# Altium footprint library Connector_FFC-FPC.PcbLib: 372 footprints (part 4 of 24)
Each footprint in its own frame and in the unit in brackets; x right, y up, seen from the top. Pads: shape width x height; smd on the part's side, far side on the other; paste and mask are expansions set on the pad; w line width, h text height; cw(c..) or ccw(c..) is an arc to the next point about the centre after c.
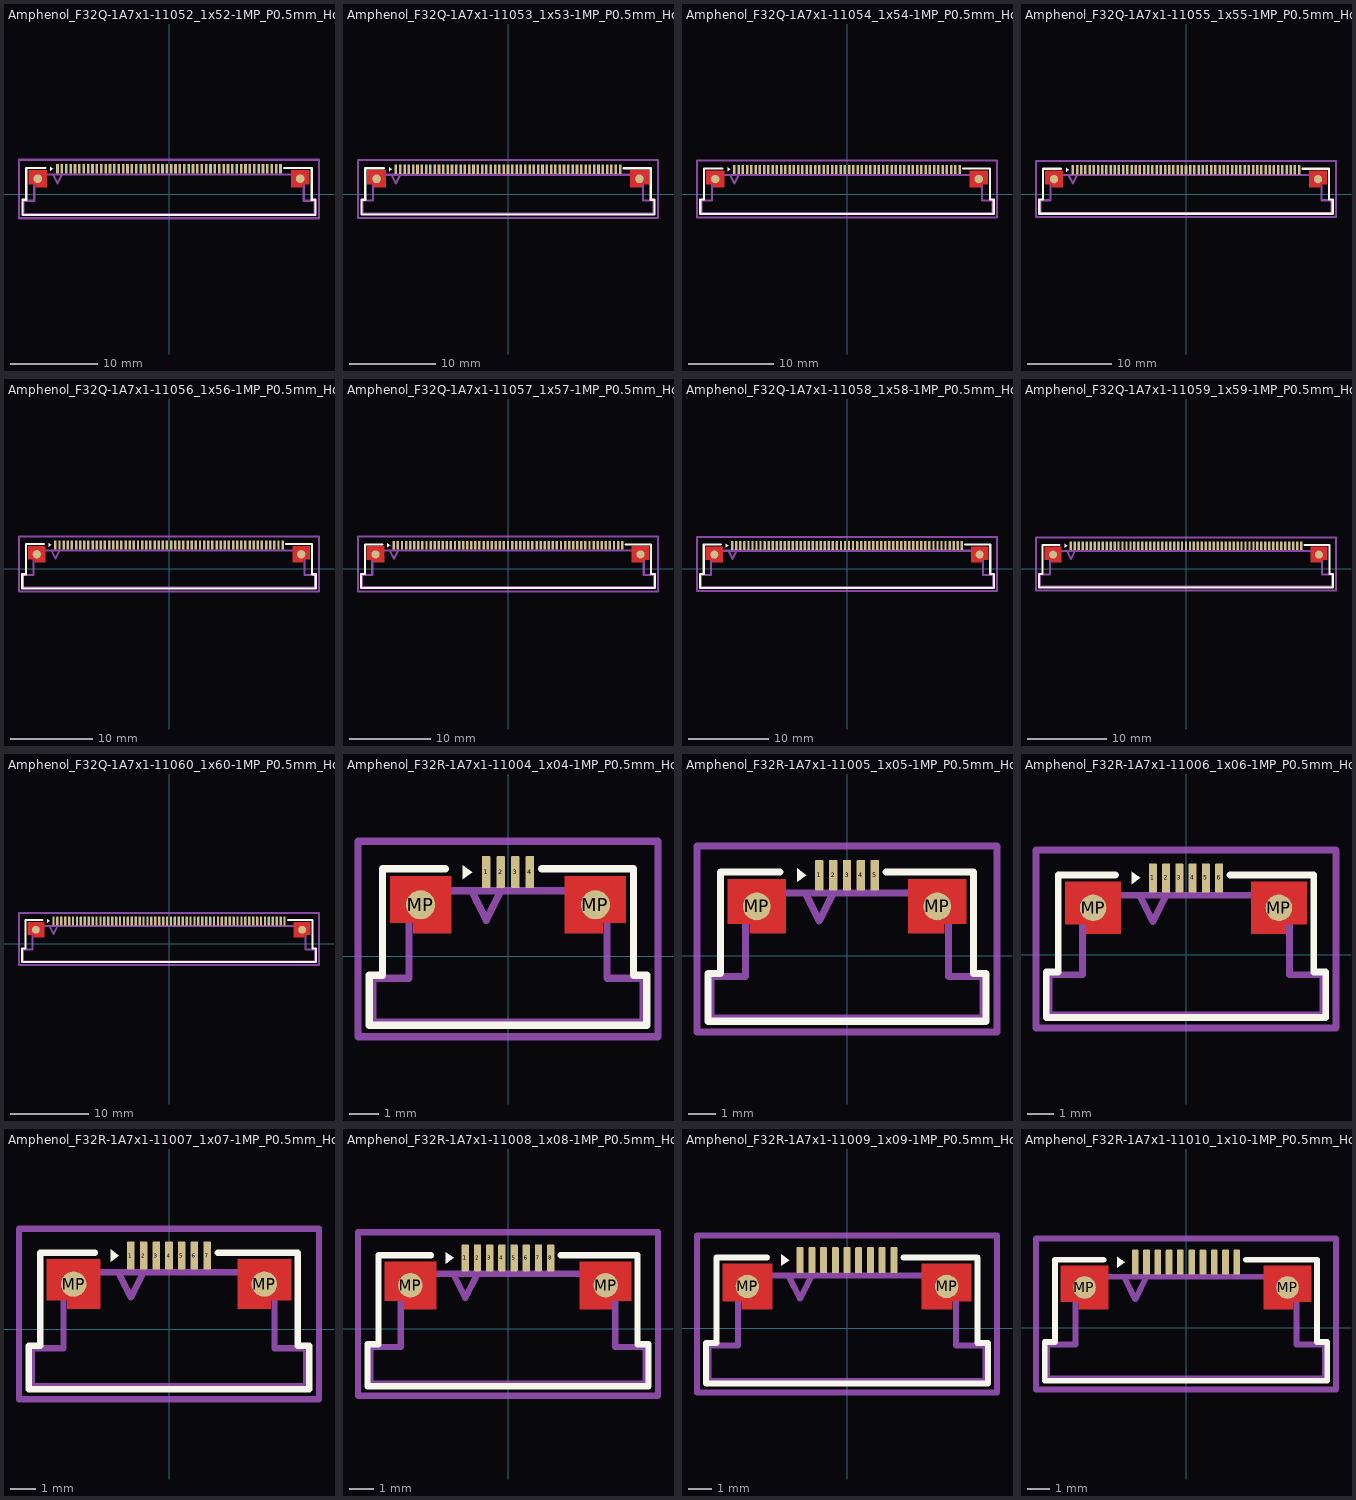
[diagram p3: the footprints below, top view; thin cyan lines are the x and y axes]

## Amphenol_F32Q-1A7x1-11052_1x52-1MP_P0.5mm_Horizontal [mm]
pads (54):
  rrect25% 0.3x1.1 smd: 1(-12.75,2.9) 2(-12.25,2.9) 3(-11.75,2.9) 4(-11.25,2.9) 5(-10.75,2.9) 6(-10.25,2.9) 7(-9.75,2.9) 8(-9.25,2.9) 9(-8.75,2.9) 10(-8.25,2.9) 11(-7.75,2.9) 12(-7.25,2.9) 13(-6.75,2.9) 14(-6.25,2.9) 15(-5.75,2.9) 16(-5.25,2.9) 17(-4.75,2.9) 18(-4.25,2.9) 19(-3.75,2.9) 20(-3.25,2.9) 21(-2.75,2.9) 22(-2.25,2.9) 23(-1.75,2.9) 24(-1.25,2.9) 25(-0.75,2.9) 26(-0.25,2.9) 27(0.25,2.9) 28(0.75,2.9) 29(1.25,2.9) 30(1.75,2.9) 31(2.25,2.9) 32(2.75,2.9) 33(3.25,2.9) 34(3.75,2.9) 35(4.25,2.9) 36(4.75,2.9) 37(5.25,2.9) 38(5.75,2.9) 39(6.25,2.9) 40(6.75,2.9) 41(7.25,2.9) 42(7.75,2.9) 43(8.25,2.9) 44(8.75,2.9) 45(9.25,2.9) 46(9.75,2.9) 47(10.25,2.9) 48(10.75,2.9) 49(11.25,2.9) 50(11.75,2.9) 51(12.25,2.9) 52(12.75,2.9)
  round 1 smd: MP(-15,1.775) MP(15,1.775)
F.Cu:
  region: 16.05,1.15 15.25,1.15 15.25,0.8 13.95,0.8 13.95,2.75 16.05,2.75
  region: -13.95,0.8 -15.25,0.8 -15.25,1.15 -16.05,1.15 -16.05,2.75 -13.95,2.75
F.SilkS:
  region: -13.22,2.9 -13.55,2.66 -13.55,3.14
  lines w0.254: -14.16,3.01 -16.31,3.01 -16.31,-0.64 -16.76,-0.64 -16.76,-2.36 16.76,-2.36 16.76,-0.64 16.31,-0.64 16.31,3.01 13.16,3.01
F.Paste:
  region: 16.05,1.15 15.25,1.15 15.25,0.8 13.95,0.8 13.95,2.75 16.05,2.75
  region: -13.95,0.8 -15.25,0.8 -15.25,1.15 -16.05,1.15 -16.05,2.75 -13.95,2.75
F.Mask:
  region: 16.05,1.15 15.25,1.15 15.25,0.8 13.95,0.8 13.95,2.75 16.05,2.75
  region: -13.95,0.8 -15.25,0.8 -15.25,1.15 -16.05,1.15 -16.05,2.75 -13.95,2.75
Top Assembly:
  lines w0.254: -13.25,2.25 -12.75,1.25 -12.25,2.25 ; -16.65,-2.25 16.65,-2.25 16.65,-0.75 15.4,-0.75 15.4,2.25 -15.4,2.25 -15.4,-0.75 -16.65,-0.75 -16.65,-2.25
  text "'.Designator'" at -4.047,-0.84 h1
Top Courtyard:
  lines w0.254: -17.15,-2.75 17.15,-2.75 17.15,3.95 -17.15,3.95 -17.15,-2.75
Top Designator:
  text ".Designator" at -7.618,0.092 h1.52

## Amphenol_F32Q-1A7x1-11053_1x53-1MP_P0.5mm_Horizontal [mm]
pads (55):
  rrect25% 0.3x1.1 smd: 1(-13,2.9) 2(-12.5,2.9) 3(-12,2.9) 4(-11.5,2.9) 5(-11,2.9) 6(-10.5,2.9) 7(-10,2.9) 8(-9.5,2.9) 9(-9,2.9) 10(-8.5,2.9) 11(-8,2.9) 12(-7.5,2.9) 13(-7,2.9) 14(-6.5,2.9) 15(-6,2.9) 16(-5.5,2.9) 17(-5,2.9) 18(-4.5,2.9) 19(-4,2.9) 20(-3.5,2.9) 21(-3,2.9) 22(-2.5,2.9) 23(-2,2.9) 24(-1.5,2.9) 25(-1,2.9) 26(-0.5,2.9) 27(0,2.9) 28(0.5,2.9) 29(1,2.9) 30(1.5,2.9) 31(2,2.9) 32(2.5,2.9) 33(3,2.9) 34(3.5,2.9) 35(4,2.9) 36(4.5,2.9) 37(5,2.9) 38(5.5,2.9) 39(6,2.9) 40(6.5,2.9) 41(7,2.9) 42(7.5,2.9) 43(8,2.9) 44(8.5,2.9) 45(9,2.9) 46(9.5,2.9) 47(10,2.9) 48(10.5,2.9) 49(11,2.9) 50(11.5,2.9) 51(12,2.9) 52(12.5,2.9) 53(13,2.9)
  round 1 smd: MP(-15.25,1.775) MP(15.25,1.775)
F.Cu:
  region: 16.3,1.15 15.5,1.15 15.5,0.8 14.2,0.8 14.2,2.75 16.3,2.75
  region: -14.2,0.8 -15.5,0.8 -15.5,1.15 -16.3,1.15 -16.3,2.75 -14.2,2.75
F.SilkS:
  region: -13.47,2.9 -13.8,2.66 -13.8,3.14
  lines w0.254: -14.41,3.01 -16.56,3.01 -16.56,-0.64 -17.01,-0.64 -17.01,-2.36 17.01,-2.36 17.01,-0.64 16.56,-0.64 16.56,3.01 13.41,3.01
F.Paste:
  region: 16.3,1.15 15.5,1.15 15.5,0.8 14.2,0.8 14.2,2.75 16.3,2.75
  region: -14.2,0.8 -15.5,0.8 -15.5,1.15 -16.3,1.15 -16.3,2.75 -14.2,2.75
F.Mask:
  region: 16.3,1.15 15.5,1.15 15.5,0.8 14.2,0.8 14.2,2.75 16.3,2.75
  region: -14.2,0.8 -15.5,0.8 -15.5,1.15 -16.3,1.15 -16.3,2.75 -14.2,2.75
Top Assembly:
  lines w0.254: -13.5,2.25 -13,1.25 -12.5,2.25 ; -16.9,-2.25 16.9,-2.25 16.9,-0.75 15.65,-0.75 15.65,2.25 -15.65,2.25 -15.65,-0.75 -16.9,-0.75 -16.9,-2.25
  text "'.Designator'" at -4.047,-0.84 h1
Top Courtyard:
  lines w0.254: -17.4,-2.75 17.4,-2.75 17.4,3.95 -17.4,3.95 -17.4,-2.75
Top Designator:
  text ".Designator" at -7.618,0.092 h1.52

## Amphenol_F32Q-1A7x1-11054_1x54-1MP_P0.5mm_Horizontal [mm]
pads (56):
  rrect25% 0.3x1.1 smd: 1(-13.25,2.9) 2(-12.75,2.9) 3(-12.25,2.9) 4(-11.75,2.9) 5(-11.25,2.9) 6(-10.75,2.9) 7(-10.25,2.9) 8(-9.75,2.9) 9(-9.25,2.9) 10(-8.75,2.9) 11(-8.25,2.9) 12(-7.75,2.9) 13(-7.25,2.9) 14(-6.75,2.9) 15(-6.25,2.9) 16(-5.75,2.9) 17(-5.25,2.9) 18(-4.75,2.9) 19(-4.25,2.9) 20(-3.75,2.9) 21(-3.25,2.9) 22(-2.75,2.9) 23(-2.25,2.9) 24(-1.75,2.9) 25(-1.25,2.9) 26(-0.75,2.9) 27(-0.25,2.9) 28(0.25,2.9) 29(0.75,2.9) 30(1.25,2.9) 31(1.75,2.9) 32(2.25,2.9) 33(2.75,2.9) 34(3.25,2.9) 35(3.75,2.9) 36(4.25,2.9) 37(4.75,2.9) 38(5.25,2.9) 39(5.75,2.9) 40(6.25,2.9) 41(6.75,2.9) 42(7.25,2.9) 43(7.75,2.9) 44(8.25,2.9) 45(8.75,2.9) 46(9.25,2.9) 47(9.75,2.9) 48(10.25,2.9) 49(10.75,2.9) 50(11.25,2.9) 51(11.75,2.9) 52(12.25,2.9) 53(12.75,2.9) 54(13.25,2.9)
  round 1 smd: MP(-15.5,1.775) MP(15.5,1.775)
F.Cu:
  region: 16.55,1.15 15.75,1.15 15.75,0.8 14.45,0.8 14.45,2.75 16.55,2.75
  region: -14.45,0.8 -15.75,0.8 -15.75,1.15 -16.55,1.15 -16.55,2.75 -14.45,2.75
F.SilkS:
  region: -13.72,2.9 -14.05,2.66 -14.05,3.14
  lines w0.254: -14.66,3.01 -16.81,3.01 -16.81,-0.64 -17.26,-0.64 -17.26,-2.36 17.26,-2.36 17.26,-0.64 16.81,-0.64 16.81,3.01 13.66,3.01
F.Paste:
  region: 16.55,1.15 15.75,1.15 15.75,0.8 14.45,0.8 14.45,2.75 16.55,2.75
  region: -14.45,0.8 -15.75,0.8 -15.75,1.15 -16.55,1.15 -16.55,2.75 -14.45,2.75
F.Mask:
  region: 16.55,1.15 15.75,1.15 15.75,0.8 14.45,0.8 14.45,2.75 16.55,2.75
  region: -14.45,0.8 -15.75,0.8 -15.75,1.15 -16.55,1.15 -16.55,2.75 -14.45,2.75
Top Assembly:
  lines w0.254: -13.75,2.25 -13.25,1.25 -12.75,2.25 ; -17.15,-2.25 17.15,-2.25 17.15,-0.75 15.9,-0.75 15.9,2.25 -15.9,2.25 -15.9,-0.75 -17.15,-0.75 -17.15,-2.25
  text "'.Designator'" at -4.047,-0.84 h1
Top Courtyard:
  lines w0.254: -17.65,-2.75 17.65,-2.75 17.65,3.95 -17.65,3.95 -17.65,-2.75
Top Designator:
  text ".Designator" at -7.618,0.092 h1.52

## Amphenol_F32Q-1A7x1-11055_1x55-1MP_P0.5mm_Horizontal [mm]
pads (57):
  rrect25% 0.3x1.1 smd: 1(-13.5,2.9) 2(-13,2.9) 3(-12.5,2.9) 4(-12,2.9) 5(-11.5,2.9) 6(-11,2.9) 7(-10.5,2.9) 8(-10,2.9) 9(-9.5,2.9) 10(-9,2.9) 11(-8.5,2.9) 12(-8,2.9) 13(-7.5,2.9) 14(-7,2.9) 15(-6.5,2.9) 16(-6,2.9) 17(-5.5,2.9) 18(-5,2.9) 19(-4.5,2.9) 20(-4,2.9) 21(-3.5,2.9) 22(-3,2.9) 23(-2.5,2.9) 24(-2,2.9) 25(-1.5,2.9) 26(-1,2.9) 27(-0.5,2.9) 28(0,2.9) 29(0.5,2.9) 30(1,2.9) 31(1.5,2.9) 32(2,2.9) 33(2.5,2.9) 34(3,2.9) 35(3.5,2.9) 36(4,2.9) 37(4.5,2.9) 38(5,2.9) 39(5.5,2.9) 40(6,2.9) 41(6.5,2.9) 42(7,2.9) 43(7.5,2.9) 44(8,2.9) 45(8.5,2.9) 46(9,2.9) 47(9.5,2.9) 48(10,2.9) 49(10.5,2.9) 50(11,2.9) 51(11.5,2.9) 52(12,2.9) 53(12.5,2.9) 54(13,2.9) 55(13.5,2.9)
  round 1 smd: MP(-15.75,1.775) MP(15.75,1.775)
F.Cu:
  region: 16.8,1.15 16,1.15 16,0.8 14.7,0.8 14.7,2.75 16.8,2.75
  region: -14.7,0.8 -16,0.8 -16,1.15 -16.8,1.15 -16.8,2.75 -14.7,2.75
F.SilkS:
  region: -13.97,2.9 -14.3,2.66 -14.3,3.14
  lines w0.254: -14.91,3.01 -17.06,3.01 -17.06,-0.64 -17.51,-0.64 -17.51,-2.36 17.51,-2.36 17.51,-0.64 17.06,-0.64 17.06,3.01 13.91,3.01
F.Paste:
  region: 16.8,1.15 16,1.15 16,0.8 14.7,0.8 14.7,2.75 16.8,2.75
  region: -14.7,0.8 -16,0.8 -16,1.15 -16.8,1.15 -16.8,2.75 -14.7,2.75
F.Mask:
  region: 16.8,1.15 16,1.15 16,0.8 14.7,0.8 14.7,2.75 16.8,2.75
  region: -14.7,0.8 -16,0.8 -16,1.15 -16.8,1.15 -16.8,2.75 -14.7,2.75
Top Assembly:
  lines w0.254: -14,2.25 -13.5,1.25 -13,2.25 ; -17.4,-2.25 17.4,-2.25 17.4,-0.75 16.15,-0.75 16.15,2.25 -16.15,2.25 -16.15,-0.75 -17.4,-0.75 -17.4,-2.25
  text "'.Designator'" at -4.047,-0.84 h1
Top Courtyard:
  lines w0.254: -17.9,-2.75 17.9,-2.75 17.9,3.95 -17.9,3.95 -17.9,-2.75
Top Designator:
  text ".Designator" at -7.618,0.092 h1.52

## Amphenol_F32Q-1A7x1-11056_1x56-1MP_P0.5mm_Horizontal [mm]
pads (58):
  rrect25% 0.3x1.1 smd: 1(-13.75,2.9) 2(-13.25,2.9) 3(-12.75,2.9) 4(-12.25,2.9) 5(-11.75,2.9) 6(-11.25,2.9) 7(-10.75,2.9) 8(-10.25,2.9) 9(-9.75,2.9) 10(-9.25,2.9) 11(-8.75,2.9) 12(-8.25,2.9) 13(-7.75,2.9) 14(-7.25,2.9) 15(-6.75,2.9) 16(-6.25,2.9) 17(-5.75,2.9) 18(-5.25,2.9) 19(-4.75,2.9) 20(-4.25,2.9) 21(-3.75,2.9) 22(-3.25,2.9) 23(-2.75,2.9) 24(-2.25,2.9) 25(-1.75,2.9) 26(-1.25,2.9) 27(-0.75,2.9) 28(-0.25,2.9) 29(0.25,2.9) 30(0.75,2.9) 31(1.25,2.9) 32(1.75,2.9) 33(2.25,2.9) 34(2.75,2.9) 35(3.25,2.9) 36(3.75,2.9) 37(4.25,2.9) 38(4.75,2.9) 39(5.25,2.9) 40(5.75,2.9) 41(6.25,2.9) 42(6.75,2.9) 43(7.25,2.9) 44(7.75,2.9) 45(8.25,2.9) 46(8.75,2.9) 47(9.25,2.9) 48(9.75,2.9) 49(10.25,2.9) 50(10.75,2.9) 51(11.25,2.9) 52(11.75,2.9) 53(12.25,2.9) 54(12.75,2.9) 55(13.25,2.9) 56(13.75,2.9)
  round 1 smd: MP(-16,1.775) MP(16,1.775)
F.Cu:
  region: 17.05,1.15 16.25,1.15 16.25,0.8 14.95,0.8 14.95,2.75 17.05,2.75
  region: -14.95,0.8 -16.25,0.8 -16.25,1.15 -17.05,1.15 -17.05,2.75 -14.95,2.75
F.SilkS:
  region: -14.22,2.9 -14.55,2.66 -14.55,3.14
  lines w0.254: -15.16,3.01 -17.31,3.01 -17.31,-0.64 -17.76,-0.64 -17.76,-2.36 17.76,-2.36 17.76,-0.64 17.31,-0.64 17.31,3.01 14.16,3.01
F.Paste:
  region: 17.05,1.15 16.25,1.15 16.25,0.8 14.95,0.8 14.95,2.75 17.05,2.75
  region: -14.95,0.8 -16.25,0.8 -16.25,1.15 -17.05,1.15 -17.05,2.75 -14.95,2.75
F.Mask:
  region: 17.05,1.15 16.25,1.15 16.25,0.8 14.95,0.8 14.95,2.75 17.05,2.75
  region: -14.95,0.8 -16.25,0.8 -16.25,1.15 -17.05,1.15 -17.05,2.75 -14.95,2.75
Top Assembly:
  lines w0.254: -14.25,2.25 -13.75,1.25 -13.25,2.25 ; -17.65,-2.25 17.65,-2.25 17.65,-0.75 16.4,-0.75 16.4,2.25 -16.4,2.25 -16.4,-0.75 -17.65,-0.75 -17.65,-2.25
  text "'.Designator'" at -4.047,-0.84 h1
Top Courtyard:
  lines w0.254: -18.15,-2.75 18.15,-2.75 18.15,3.95 -18.15,3.95 -18.15,-2.75
Top Designator:
  text ".Designator" at -7.618,0.092 h1.52

## Amphenol_F32Q-1A7x1-11057_1x57-1MP_P0.5mm_Horizontal [mm]
pads (59):
  rrect25% 0.3x1.1 smd: 1(-14,2.9) 2(-13.5,2.9) 3(-13,2.9) 4(-12.5,2.9) 5(-12,2.9) 6(-11.5,2.9) 7(-11,2.9) 8(-10.5,2.9) 9(-10,2.9) 10(-9.5,2.9) 11(-9,2.9) 12(-8.5,2.9) 13(-8,2.9) 14(-7.5,2.9) 15(-7,2.9) 16(-6.5,2.9) 17(-6,2.9) 18(-5.5,2.9) 19(-5,2.9) 20(-4.5,2.9) 21(-4,2.9) 22(-3.5,2.9) 23(-3,2.9) 24(-2.5,2.9) 25(-2,2.9) 26(-1.5,2.9) 27(-1,2.9) 28(-0.5,2.9) 29(0,2.9) 30(0.5,2.9) 31(1,2.9) 32(1.5,2.9) 33(2,2.9) 34(2.5,2.9) 35(3,2.9) 36(3.5,2.9) 37(4,2.9) 38(4.5,2.9) 39(5,2.9) 40(5.5,2.9) 41(6,2.9) 42(6.5,2.9) 43(7,2.9) 44(7.5,2.9) 45(8,2.9) 46(8.5,2.9) 47(9,2.9) 48(9.5,2.9) 49(10,2.9) 50(10.5,2.9) 51(11,2.9) 52(11.5,2.9) 53(12,2.9) 54(12.5,2.9) 55(13,2.9) 56(13.5,2.9) 57(14,2.9)
  round 1 smd: MP(-16.25,1.775) MP(16.25,1.775)
F.Cu:
  region: 17.3,1.15 16.5,1.15 16.5,0.8 15.2,0.8 15.2,2.75 17.3,2.75
  region: -15.2,0.8 -16.5,0.8 -16.5,1.15 -17.3,1.15 -17.3,2.75 -15.2,2.75
F.SilkS:
  region: -14.47,2.9 -14.8,2.66 -14.8,3.14
  lines w0.254: -15.41,3.01 -17.56,3.01 -17.56,-0.64 -18.01,-0.64 -18.01,-2.36 18.01,-2.36 18.01,-0.64 17.56,-0.64 17.56,3.01 14.41,3.01
F.Paste:
  region: 17.3,1.15 16.5,1.15 16.5,0.8 15.2,0.8 15.2,2.75 17.3,2.75
  region: -15.2,0.8 -16.5,0.8 -16.5,1.15 -17.3,1.15 -17.3,2.75 -15.2,2.75
F.Mask:
  region: 17.3,1.15 16.5,1.15 16.5,0.8 15.2,0.8 15.2,2.75 17.3,2.75
  region: -15.2,0.8 -16.5,0.8 -16.5,1.15 -17.3,1.15 -17.3,2.75 -15.2,2.75
Top Assembly:
  lines w0.254: -14.5,2.25 -14,1.25 -13.5,2.25 ; -17.9,-2.25 17.9,-2.25 17.9,-0.75 16.65,-0.75 16.65,2.25 -16.65,2.25 -16.65,-0.75 -17.9,-0.75 -17.9,-2.25
  text "'.Designator'" at -4.047,-0.84 h1
Top Courtyard:
  lines w0.254: -18.4,-2.75 18.4,-2.75 18.4,3.95 -18.4,3.95 -18.4,-2.75
Top Designator:
  text ".Designator" at -7.618,0.092 h1.52

## Amphenol_F32Q-1A7x1-11058_1x58-1MP_P0.5mm_Horizontal [mm]
pads (60):
  rrect25% 0.3x1.1 smd: 1(-14.25,2.9) 2(-13.75,2.9) 3(-13.25,2.9) 4(-12.75,2.9) 5(-12.25,2.9) 6(-11.75,2.9) 7(-11.25,2.9) 8(-10.75,2.9) 9(-10.25,2.9) 10(-9.75,2.9) 11(-9.25,2.9) 12(-8.75,2.9) 13(-8.25,2.9) 14(-7.75,2.9) 15(-7.25,2.9) 16(-6.75,2.9) 17(-6.25,2.9) 18(-5.75,2.9) 19(-5.25,2.9) 20(-4.75,2.9) 21(-4.25,2.9) 22(-3.75,2.9) 23(-3.25,2.9) 24(-2.75,2.9) 25(-2.25,2.9) 26(-1.75,2.9) 27(-1.25,2.9) 28(-0.75,2.9) 29(-0.25,2.9) 30(0.25,2.9) 31(0.75,2.9) 32(1.25,2.9) 33(1.75,2.9) 34(2.25,2.9) 35(2.75,2.9) 36(3.25,2.9) 37(3.75,2.9) 38(4.25,2.9) 39(4.75,2.9) 40(5.25,2.9) 41(5.75,2.9) 42(6.25,2.9) 43(6.75,2.9) 44(7.25,2.9) 45(7.75,2.9) 46(8.25,2.9) 47(8.75,2.9) 48(9.25,2.9) 49(9.75,2.9) 50(10.25,2.9) 51(10.75,2.9) 52(11.25,2.9) 53(11.75,2.9) 54(12.25,2.9) 55(12.75,2.9) 56(13.25,2.9) 57(13.75,2.9) 58(14.25,2.9)
  round 1 smd: MP(-16.5,1.775) MP(16.5,1.775)
F.Cu:
  region: 17.55,1.15 16.75,1.15 16.75,0.8 15.45,0.8 15.45,2.75 17.55,2.75
  region: -15.45,0.8 -16.75,0.8 -16.75,1.15 -17.55,1.15 -17.55,2.75 -15.45,2.75
F.SilkS:
  region: -14.72,2.9 -15.05,2.66 -15.05,3.14
  lines w0.254: -15.66,3.01 -17.81,3.01 -17.81,-0.64 -18.26,-0.64 -18.26,-2.36 18.26,-2.36 18.26,-0.64 17.81,-0.64 17.81,3.01 14.66,3.01
F.Paste:
  region: 17.55,1.15 16.75,1.15 16.75,0.8 15.45,0.8 15.45,2.75 17.55,2.75
  region: -15.45,0.8 -16.75,0.8 -16.75,1.15 -17.55,1.15 -17.55,2.75 -15.45,2.75
F.Mask:
  region: 17.55,1.15 16.75,1.15 16.75,0.8 15.45,0.8 15.45,2.75 17.55,2.75
  region: -15.45,0.8 -16.75,0.8 -16.75,1.15 -17.55,1.15 -17.55,2.75 -15.45,2.75
Top Assembly:
  lines w0.254: -14.75,2.25 -14.25,1.25 -13.75,2.25 ; -18.15,-2.25 18.15,-2.25 18.15,-0.75 16.9,-0.75 16.9,2.25 -16.9,2.25 -16.9,-0.75 -18.15,-0.75 -18.15,-2.25
  text "'.Designator'" at -4.047,-0.84 h1
Top Courtyard:
  lines w0.254: -18.65,-2.75 18.65,-2.75 18.65,3.95 -18.65,3.95 -18.65,-2.75
Top Designator:
  text ".Designator" at -7.618,0.092 h1.52

## Amphenol_F32Q-1A7x1-11059_1x59-1MP_P0.5mm_Horizontal [mm]
pads (61):
  rrect25% 0.3x1.1 smd: 1(-14.5,2.9) 2(-14,2.9) 3(-13.5,2.9) 4(-13,2.9) 5(-12.5,2.9) 6(-12,2.9) 7(-11.5,2.9) 8(-11,2.9) 9(-10.5,2.9) 10(-10,2.9) 11(-9.5,2.9) 12(-9,2.9) 13(-8.5,2.9) 14(-8,2.9) 15(-7.5,2.9) 16(-7,2.9) 17(-6.5,2.9) 18(-6,2.9) 19(-5.5,2.9) 20(-5,2.9) 21(-4.5,2.9) 22(-4,2.9) 23(-3.5,2.9) 24(-3,2.9) 25(-2.5,2.9) 26(-2,2.9) 27(-1.5,2.9) 28(-1,2.9) 29(-0.5,2.9) 30(0,2.9) 31(0.5,2.9) 32(1,2.9) 33(1.5,2.9) 34(2,2.9) 35(2.5,2.9) 36(3,2.9) 37(3.5,2.9) 38(4,2.9) 39(4.5,2.9) 40(5,2.9) 41(5.5,2.9) 42(6,2.9) 43(6.5,2.9) 44(7,2.9) 45(7.5,2.9) 46(8,2.9) 47(8.5,2.9) 48(9,2.9) 49(9.5,2.9) 50(10,2.9) 51(10.5,2.9) 52(11,2.9) 53(11.5,2.9) 54(12,2.9) 55(12.5,2.9) 56(13,2.9) 57(13.5,2.9) 58(14,2.9) 59(14.5,2.9)
  round 1 smd: MP(-16.75,1.775) MP(16.75,1.775)
F.Cu:
  region: 17.8,1.15 17,1.15 17,0.8 15.7,0.8 15.7,2.75 17.8,2.75
  region: -15.7,0.8 -17,0.8 -17,1.15 -17.8,1.15 -17.8,2.75 -15.7,2.75
F.SilkS:
  region: -14.97,2.9 -15.3,2.66 -15.3,3.14
  lines w0.254: -15.91,3.01 -18.06,3.01 -18.06,-0.64 -18.51,-0.64 -18.51,-2.36 18.51,-2.36 18.51,-0.64 18.06,-0.64 18.06,3.01 14.91,3.01
F.Paste:
  region: 17.8,1.15 17,1.15 17,0.8 15.7,0.8 15.7,2.75 17.8,2.75
  region: -15.7,0.8 -17,0.8 -17,1.15 -17.8,1.15 -17.8,2.75 -15.7,2.75
F.Mask:
  region: 17.8,1.15 17,1.15 17,0.8 15.7,0.8 15.7,2.75 17.8,2.75
  region: -15.7,0.8 -17,0.8 -17,1.15 -17.8,1.15 -17.8,2.75 -15.7,2.75
Top Assembly:
  lines w0.254: -15,2.25 -14.5,1.25 -14,2.25 ; -18.4,-2.25 18.4,-2.25 18.4,-0.75 17.15,-0.75 17.15,2.25 -17.15,2.25 -17.15,-0.75 -18.4,-0.75 -18.4,-2.25
  text "'.Designator'" at -4.047,-0.84 h1
Top Courtyard:
  lines w0.254: -18.9,-2.75 18.9,-2.75 18.9,3.95 -18.9,3.95 -18.9,-2.75
Top Designator:
  text ".Designator" at -7.618,0.092 h1.52

## Amphenol_F32Q-1A7x1-11060_1x60-1MP_P0.5mm_Horizontal [mm]
pads (62):
  rrect25% 0.3x1.1 smd: 1(-14.75,2.9) 2(-14.25,2.9) 3(-13.75,2.9) 4(-13.25,2.9) 5(-12.75,2.9) 6(-12.25,2.9) 7(-11.75,2.9) 8(-11.25,2.9) 9(-10.75,2.9) 10(-10.25,2.9) 11(-9.75,2.9) 12(-9.25,2.9) 13(-8.75,2.9) 14(-8.25,2.9) 15(-7.75,2.9) 16(-7.25,2.9) 17(-6.75,2.9) 18(-6.25,2.9) 19(-5.75,2.9) 20(-5.25,2.9) 21(-4.75,2.9) 22(-4.25,2.9) 23(-3.75,2.9) 24(-3.25,2.9) 25(-2.75,2.9) 26(-2.25,2.9) 27(-1.75,2.9) 28(-1.25,2.9) 29(-0.75,2.9) 30(-0.25,2.9) 31(0.25,2.9) 32(0.75,2.9) 33(1.25,2.9) 34(1.75,2.9) 35(2.25,2.9) 36(2.75,2.9) 37(3.25,2.9) 38(3.75,2.9) 39(4.25,2.9) 40(4.75,2.9) 41(5.25,2.9) 42(5.75,2.9) 43(6.25,2.9) 44(6.75,2.9) 45(7.25,2.9) 46(7.75,2.9) 47(8.25,2.9) 48(8.75,2.9) 49(9.25,2.9) 50(9.75,2.9) 51(10.25,2.9) 52(10.75,2.9) 53(11.25,2.9) 54(11.75,2.9) 55(12.25,2.9) 56(12.75,2.9) 57(13.25,2.9) 58(13.75,2.9) 59(14.25,2.9) 60(14.75,2.9)
  round 1 smd: MP(-17,1.775) MP(17,1.775)
F.Cu:
  region: 18.05,1.15 17.25,1.15 17.25,0.8 15.95,0.8 15.95,2.75 18.05,2.75
  region: -15.95,0.8 -17.25,0.8 -17.25,1.15 -18.05,1.15 -18.05,2.75 -15.95,2.75
F.SilkS:
  region: -15.22,2.9 -15.55,2.66 -15.55,3.14
  lines w0.254: -16.16,3.01 -18.31,3.01 -18.31,-0.64 -18.76,-0.64 -18.76,-2.36 18.76,-2.36 18.76,-0.64 18.31,-0.64 18.31,3.01 15.16,3.01
F.Paste:
  region: 18.05,1.15 17.25,1.15 17.25,0.8 15.95,0.8 15.95,2.75 18.05,2.75
  region: -15.95,0.8 -17.25,0.8 -17.25,1.15 -18.05,1.15 -18.05,2.75 -15.95,2.75
F.Mask:
  region: 18.05,1.15 17.25,1.15 17.25,0.8 15.95,0.8 15.95,2.75 18.05,2.75
  region: -15.95,0.8 -17.25,0.8 -17.25,1.15 -18.05,1.15 -18.05,2.75 -15.95,2.75
Top Assembly:
  lines w0.254: -15.25,2.25 -14.75,1.25 -14.25,2.25 ; -18.65,-2.25 18.65,-2.25 18.65,-0.75 17.4,-0.75 17.4,2.25 -17.4,2.25 -17.4,-0.75 -18.65,-0.75 -18.65,-2.25
  text "'.Designator'" at -4.047,-0.84 h1
Top Courtyard:
  lines w0.254: -19.15,-2.75 19.15,-2.75 19.15,3.95 -19.15,3.95 -19.15,-2.75
Top Designator:
  text ".Designator" at -7.618,0.092 h1.52

## Amphenol_F32R-1A7x1-11004_1x04-1MP_P0.5mm_Horizontal [mm]
pads (6):
  rrect25% 0.3x1.1 smd: 1(-0.75,2.9) 2(-0.25,2.9) 3(0.25,2.9) 4(0.75,2.9)
  round 1 smd: MP(-3,1.775) MP(3,1.775)
F.Cu:
  region: 4.05,1.15 3.25,1.15 3.25,0.8 1.95,0.8 1.95,2.75 4.05,2.75
  region: -1.95,0.8 -3.25,0.8 -3.25,1.15 -4.05,1.15 -4.05,2.75 -1.95,2.75
F.SilkS:
  region: -1.22,2.9 -1.55,2.66 -1.55,3.14
  lines w0.254: -2.16,3.01 -4.31,3.01 -4.31,-0.64 -4.76,-0.64 -4.76,-2.36 4.76,-2.36 4.76,-0.64 4.31,-0.64 4.31,3.01 1.16,3.01
F.Paste:
  region: 4.05,1.15 3.25,1.15 3.25,0.8 1.95,0.8 1.95,2.75 4.05,2.75
  region: -1.95,0.8 -3.25,0.8 -3.25,1.15 -4.05,1.15 -4.05,2.75 -1.95,2.75
F.Mask:
  region: 4.05,1.15 3.25,1.15 3.25,0.8 1.95,0.8 1.95,2.75 4.05,2.75
  region: -1.95,0.8 -3.25,0.8 -3.25,1.15 -4.05,1.15 -4.05,2.75 -1.95,2.75
Top Assembly:
  lines w0.254: -1.25,2.25 -0.75,1.25 -0.25,2.25 ; -4.65,-2.25 4.65,-2.25 4.65,-0.75 3.4,-0.75 3.4,2.25 -3.4,2.25 -3.4,-0.75 -4.65,-0.75 -4.65,-2.25
  text "'.Designator'" at -4.047,-0.84 h1
Top Courtyard:
  lines w0.254: -5.15,-2.75 5.15,-2.75 5.15,3.95 -5.15,3.95 -5.15,-2.75
Top Designator:
  text ".Designator" at -7.618,0.092 h1.52

## Amphenol_F32R-1A7x1-11005_1x05-1MP_P0.5mm_Horizontal [mm]
pads (7):
  rrect25% 0.3x1.1 smd: 1(-1,2.9) 2(-0.5,2.9) 3(0,2.9) 4(0.5,2.9) 5(1,2.9)
  round 1 smd: MP(-3.25,1.775) MP(3.25,1.775)
F.Cu:
  region: 4.3,1.15 3.5,1.15 3.5,0.8 2.2,0.8 2.2,2.75 4.3,2.75
  region: -2.2,0.8 -3.5,0.8 -3.5,1.15 -4.3,1.15 -4.3,2.75 -2.2,2.75
F.SilkS:
  region: -1.47,2.9 -1.8,2.66 -1.8,3.14
  lines w0.254: -2.41,3.01 -4.56,3.01 -4.56,-0.64 -5.01,-0.64 -5.01,-2.36 5.01,-2.36 5.01,-0.64 4.56,-0.64 4.56,3.01 1.41,3.01
F.Paste:
  region: 4.3,1.15 3.5,1.15 3.5,0.8 2.2,0.8 2.2,2.75 4.3,2.75
  region: -2.2,0.8 -3.5,0.8 -3.5,1.15 -4.3,1.15 -4.3,2.75 -2.2,2.75
F.Mask:
  region: 4.3,1.15 3.5,1.15 3.5,0.8 2.2,0.8 2.2,2.75 4.3,2.75
  region: -2.2,0.8 -3.5,0.8 -3.5,1.15 -4.3,1.15 -4.3,2.75 -2.2,2.75
Top Assembly:
  lines w0.254: -1.5,2.25 -1,1.25 -0.5,2.25 ; -4.9,-2.25 4.9,-2.25 4.9,-0.75 3.65,-0.75 3.65,2.25 -3.65,2.25 -3.65,-0.75 -4.9,-0.75 -4.9,-2.25
  text "'.Designator'" at -4.047,-0.84 h1
Top Courtyard:
  lines w0.254: -5.4,-2.75 5.4,-2.75 5.4,3.95 -5.4,3.95 -5.4,-2.75
Top Designator:
  text ".Designator" at -7.618,0.092 h1.52

## Amphenol_F32R-1A7x1-11006_1x06-1MP_P0.5mm_Horizontal [mm]
pads (8):
  rrect25% 0.3x1.1 smd: 1(-1.25,2.9) 2(-0.75,2.9) 3(-0.25,2.9) 4(0.25,2.9) 5(0.75,2.9) 6(1.25,2.9)
  round 1 smd: MP(-3.5,1.775) MP(3.5,1.775)
F.Cu:
  region: 4.55,1.15 3.75,1.15 3.75,0.8 2.45,0.8 2.45,2.75 4.55,2.75
  region: -2.45,0.8 -3.75,0.8 -3.75,1.15 -4.55,1.15 -4.55,2.75 -2.45,2.75
F.SilkS:
  region: -1.72,2.9 -2.05,2.66 -2.05,3.14
  lines w0.254: -2.66,3.01 -4.81,3.01 -4.81,-0.64 -5.26,-0.64 -5.26,-2.36 5.26,-2.36 5.26,-0.64 4.81,-0.64 4.81,3.01 1.66,3.01
F.Paste:
  region: 4.55,1.15 3.75,1.15 3.75,0.8 2.45,0.8 2.45,2.75 4.55,2.75
  region: -2.45,0.8 -3.75,0.8 -3.75,1.15 -4.55,1.15 -4.55,2.75 -2.45,2.75
F.Mask:
  region: 4.55,1.15 3.75,1.15 3.75,0.8 2.45,0.8 2.45,2.75 4.55,2.75
  region: -2.45,0.8 -3.75,0.8 -3.75,1.15 -4.55,1.15 -4.55,2.75 -2.45,2.75
Top Assembly:
  lines w0.254: -1.75,2.25 -1.25,1.25 -0.75,2.25 ; -5.15,-2.25 5.15,-2.25 5.15,-0.75 3.9,-0.75 3.9,2.25 -3.9,2.25 -3.9,-0.75 -5.15,-0.75 -5.15,-2.25
  text "'.Designator'" at -4.047,-0.84 h1
Top Courtyard:
  lines w0.254: -5.65,-2.75 5.65,-2.75 5.65,3.95 -5.65,3.95 -5.65,-2.75
Top Designator:
  text ".Designator" at -7.618,0.092 h1.52

## Amphenol_F32R-1A7x1-11007_1x07-1MP_P0.5mm_Horizontal [mm]
pads (9):
  rrect25% 0.3x1.1 smd: 1(-1.5,2.9) 2(-1,2.9) 3(-0.5,2.9) 4(0,2.9) 5(0.5,2.9) 6(1,2.9) 7(1.5,2.9)
  round 1 smd: MP(-3.75,1.775) MP(3.75,1.775)
F.Cu:
  region: 4.8,1.15 4,1.15 4,0.8 2.7,0.8 2.7,2.75 4.8,2.75
  region: -2.7,0.8 -4,0.8 -4,1.15 -4.8,1.15 -4.8,2.75 -2.7,2.75
F.SilkS:
  region: -1.97,2.9 -2.3,2.66 -2.3,3.14
  lines w0.254: -2.91,3.01 -5.06,3.01 -5.06,-0.64 -5.51,-0.64 -5.51,-2.36 5.51,-2.36 5.51,-0.64 5.06,-0.64 5.06,3.01 1.91,3.01
F.Paste:
  region: 4.8,1.15 4,1.15 4,0.8 2.7,0.8 2.7,2.75 4.8,2.75
  region: -2.7,0.8 -4,0.8 -4,1.15 -4.8,1.15 -4.8,2.75 -2.7,2.75
F.Mask:
  region: 4.8,1.15 4,1.15 4,0.8 2.7,0.8 2.7,2.75 4.8,2.75
  region: -2.7,0.8 -4,0.8 -4,1.15 -4.8,1.15 -4.8,2.75 -2.7,2.75
Top Assembly:
  lines w0.254: -2,2.25 -1.5,1.25 -1,2.25 ; -5.4,-2.25 5.4,-2.25 5.4,-0.75 4.15,-0.75 4.15,2.25 -4.15,2.25 -4.15,-0.75 -5.4,-0.75 -5.4,-2.25
  text "'.Designator'" at -4.047,-0.84 h1
Top Courtyard:
  lines w0.254: -5.9,-2.75 5.9,-2.75 5.9,3.95 -5.9,3.95 -5.9,-2.75
Top Designator:
  text ".Designator" at -7.618,0.092 h1.52

## Amphenol_F32R-1A7x1-11008_1x08-1MP_P0.5mm_Horizontal [mm]
pads (10):
  rrect25% 0.3x1.1 smd: 1(-1.75,2.9) 2(-1.25,2.9) 3(-0.75,2.9) 4(-0.25,2.9) 5(0.25,2.9) 6(0.75,2.9) 7(1.25,2.9) 8(1.75,2.9)
  round 1 smd: MP(-4,1.775) MP(4,1.775)
F.Cu:
  region: 5.05,1.15 4.25,1.15 4.25,0.8 2.95,0.8 2.95,2.75 5.05,2.75
  region: -2.95,0.8 -4.25,0.8 -4.25,1.15 -5.05,1.15 -5.05,2.75 -2.95,2.75
F.SilkS:
  region: -2.22,2.9 -2.55,2.66 -2.55,3.14
  lines w0.254: -3.16,3.01 -5.31,3.01 -5.31,-0.64 -5.76,-0.64 -5.76,-2.36 5.76,-2.36 5.76,-0.64 5.31,-0.64 5.31,3.01 2.16,3.01
F.Paste:
  region: 5.05,1.15 4.25,1.15 4.25,0.8 2.95,0.8 2.95,2.75 5.05,2.75
  region: -2.95,0.8 -4.25,0.8 -4.25,1.15 -5.05,1.15 -5.05,2.75 -2.95,2.75
F.Mask:
  region: 5.05,1.15 4.25,1.15 4.25,0.8 2.95,0.8 2.95,2.75 5.05,2.75
  region: -2.95,0.8 -4.25,0.8 -4.25,1.15 -5.05,1.15 -5.05,2.75 -2.95,2.75
Top Assembly:
  lines w0.254: -2.25,2.25 -1.75,1.25 -1.25,2.25 ; -5.65,-2.25 5.65,-2.25 5.65,-0.75 4.4,-0.75 4.4,2.25 -4.4,2.25 -4.4,-0.75 -5.65,-0.75 -5.65,-2.25
  text "'.Designator'" at -4.047,-0.84 h1
Top Courtyard:
  lines w0.254: -6.15,-2.75 6.15,-2.75 6.15,3.95 -6.15,3.95 -6.15,-2.75
Top Designator:
  text ".Designator" at -7.618,0.092 h1.52

## Amphenol_F32R-1A7x1-11009_1x09-1MP_P0.5mm_Horizontal [mm]
pads (11):
  rrect25% 0.3x1.1 smd: 1(-2,2.9) 2(-1.5,2.9) 3(-1,2.9) 4(-0.5,2.9) 5(0,2.9) 6(0.5,2.9) 7(1,2.9) 8(1.5,2.9) 9(2,2.9)
  round 1 smd: MP(-4.25,1.775) MP(4.25,1.775)
F.Cu:
  region: 5.3,1.15 4.5,1.15 4.5,0.8 3.2,0.8 3.2,2.75 5.3,2.75
  region: -3.2,0.8 -4.5,0.8 -4.5,1.15 -5.3,1.15 -5.3,2.75 -3.2,2.75
F.SilkS:
  region: -2.47,2.9 -2.8,2.66 -2.8,3.14
  lines w0.254: -3.41,3.01 -5.56,3.01 -5.56,-0.64 -6.01,-0.64 -6.01,-2.36 6.01,-2.36 6.01,-0.64 5.56,-0.64 5.56,3.01 2.41,3.01
F.Paste:
  region: 5.3,1.15 4.5,1.15 4.5,0.8 3.2,0.8 3.2,2.75 5.3,2.75
  region: -3.2,0.8 -4.5,0.8 -4.5,1.15 -5.3,1.15 -5.3,2.75 -3.2,2.75
F.Mask:
  region: 5.3,1.15 4.5,1.15 4.5,0.8 3.2,0.8 3.2,2.75 5.3,2.75
  region: -3.2,0.8 -4.5,0.8 -4.5,1.15 -5.3,1.15 -5.3,2.75 -3.2,2.75
Top Assembly:
  lines w0.254: -2.5,2.25 -2,1.25 -1.5,2.25 ; -5.9,-2.25 5.9,-2.25 5.9,-0.75 4.65,-0.75 4.65,2.25 -4.65,2.25 -4.65,-0.75 -5.9,-0.75 -5.9,-2.25
  text "'.Designator'" at -4.047,-0.84 h1
Top Courtyard:
  lines w0.254: -6.4,-2.75 6.4,-2.75 6.4,3.95 -6.4,3.95 -6.4,-2.75
Top Designator:
  text ".Designator" at -7.618,0.092 h1.52

## Amphenol_F32R-1A7x1-11010_1x10-1MP_P0.5mm_Horizontal [mm]
pads (12):
  rrect25% 0.3x1.1 smd: 1(-2.25,2.9) 2(-1.75,2.9) 3(-1.25,2.9) 4(-0.75,2.9) 5(-0.25,2.9) 6(0.25,2.9) 7(0.75,2.9) 8(1.25,2.9) 9(1.75,2.9) 10(2.25,2.9)
  round 1 smd: MP(-4.5,1.775) MP(4.5,1.775)
F.Cu:
  region: 5.55,1.15 4.75,1.15 4.75,0.8 3.45,0.8 3.45,2.75 5.55,2.75
  region: -3.45,0.8 -4.75,0.8 -4.75,1.15 -5.55,1.15 -5.55,2.75 -3.45,2.75
F.SilkS:
  region: -2.72,2.9 -3.05,2.66 -3.05,3.14
  lines w0.254: -3.66,3.01 -5.81,3.01 -5.81,-0.64 -6.26,-0.64 -6.26,-2.36 6.26,-2.36 6.26,-0.64 5.81,-0.64 5.81,3.01 2.66,3.01
F.Paste:
  region: 5.55,1.15 4.75,1.15 4.75,0.8 3.45,0.8 3.45,2.75 5.55,2.75
  region: -3.45,0.8 -4.75,0.8 -4.75,1.15 -5.55,1.15 -5.55,2.75 -3.45,2.75
F.Mask:
  region: 5.55,1.15 4.75,1.15 4.75,0.8 3.45,0.8 3.45,2.75 5.55,2.75
  region: -3.45,0.8 -4.75,0.8 -4.75,1.15 -5.55,1.15 -5.55,2.75 -3.45,2.75
Top Assembly:
  lines w0.254: -2.75,2.25 -2.25,1.25 -1.75,2.25 ; -6.15,-2.25 6.15,-2.25 6.15,-0.75 4.9,-0.75 4.9,2.25 -4.9,2.25 -4.9,-0.75 -6.15,-0.75 -6.15,-2.25
  text "'.Designator'" at -4.047,-0.84 h1
Top Courtyard:
  lines w0.254: -6.65,-2.75 6.65,-2.75 6.65,3.95 -6.65,3.95 -6.65,-2.75
Top Designator:
  text ".Designator" at -7.618,0.092 h1.52